# EAGLE library part AU5790D14,512 (library NXP_By_element14_Batch_1)
Single wire CAN transceiver
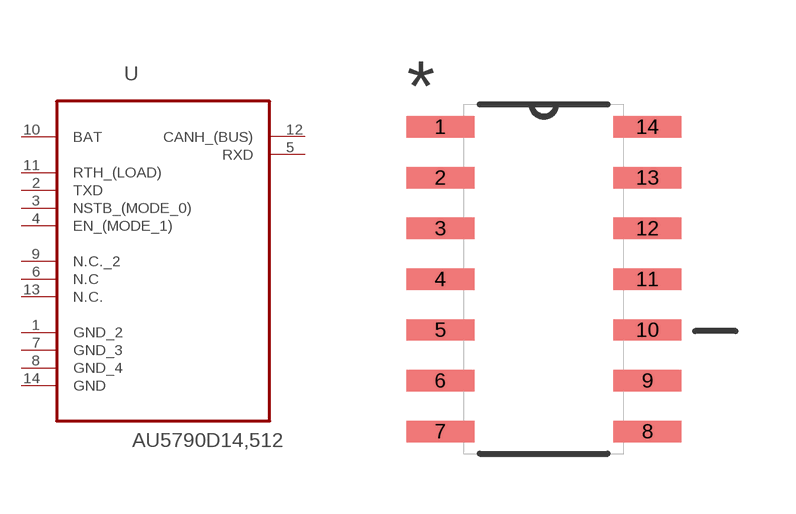
[diagram p233: symbol with the pads of SOIC127P600X175-14N; footprint SOIC127P600X175-14N]

Designator prefix U

## AU5790D14,512 (MPN: AU5790D14,512; OC_FARNELL: 1872172; OC_NEWARK: 99R2399; PACKAGE: SOIC-14; SUPPLIER: NXP)  [SOIC127P600X175-14N]
1  GND_2  pas
2  TXD  in
3  NSTB_(MODE_0)  in
4  EN_(MODE_1)  in
5  RXD  out
6  N.C  nc
7  GND_3  pas
8  GND_4  pas
9  N.C._2  nc
10  BAT  pwr
11  RTH_(LOAD)  in
12  CANH_(BUS)
13  N.C.  nc
14  GND  pas

## Footprint SOIC127P600X175-14N (pad centres in mm)
smd 1.702 x 0.533: 1 -2.591,3.81; 2 -2.591,2.54; 3 -2.591,1.27; 4 -2.591,0; 5 -2.591,-1.27; 6 -2.591,-2.54; 7 -2.591,-3.81; 8 2.591,-3.81; 9 2.591,-2.54; 10 2.591,-1.27; 11 2.591,0; 12 2.591,1.27; 13 2.591,2.54; 14 2.591,3.81